# EAGLE library part HP4_TRAFO (library MDT_TRAFO)
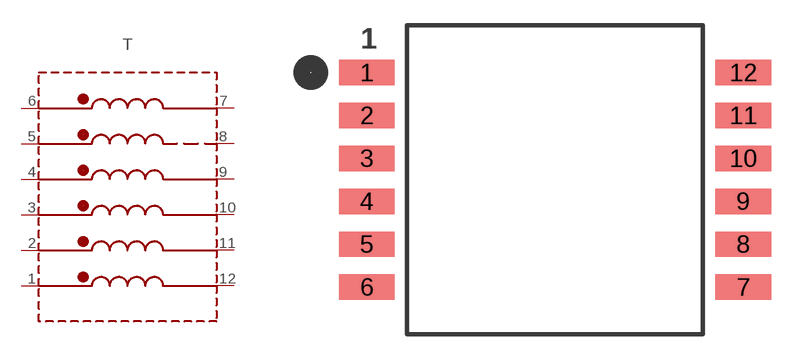
[diagram p1: symbol with the pads of HP4; footprint HP4]

Designator prefix T

## HP4_TRAFO (BOM: INCLUDE; CURRENT: 1.88A; ISAT: 1A; PARTNO: HP4-0140LB; RATIO: 1:1:1:1:1:1; VENDOR: COILCRAFT)  [HP4]
1  S1  pas
2  S2  pas
3  S3  pas
4  S4  pas
5  S5  pas
6  S6  pas
7  F6  pas
8  F5  pas
9  F4  pas
10  F3  pas
11  F2  pas
12  F1  pas

## Footprint HP4 (pad centres in mm)
smd 3.3 x 1.5: 1 -11.15,6.35; 2 -11.15,3.81; 3 -11.15,1.27; 4 -11.15,-1.27; 5 -11.15,-3.81; 6 -11.15,-6.35; 7 11.15,-6.35; 8 11.15,-3.81; 9 11.15,-1.27; 10 11.15,1.27; 11 11.15,3.81; 12 11.15,6.35